# Altium schematic symbol library BBC_Components.SchLib: 89 symbols
Pins are listed as number, name and electrical type; pins without a type are passive.

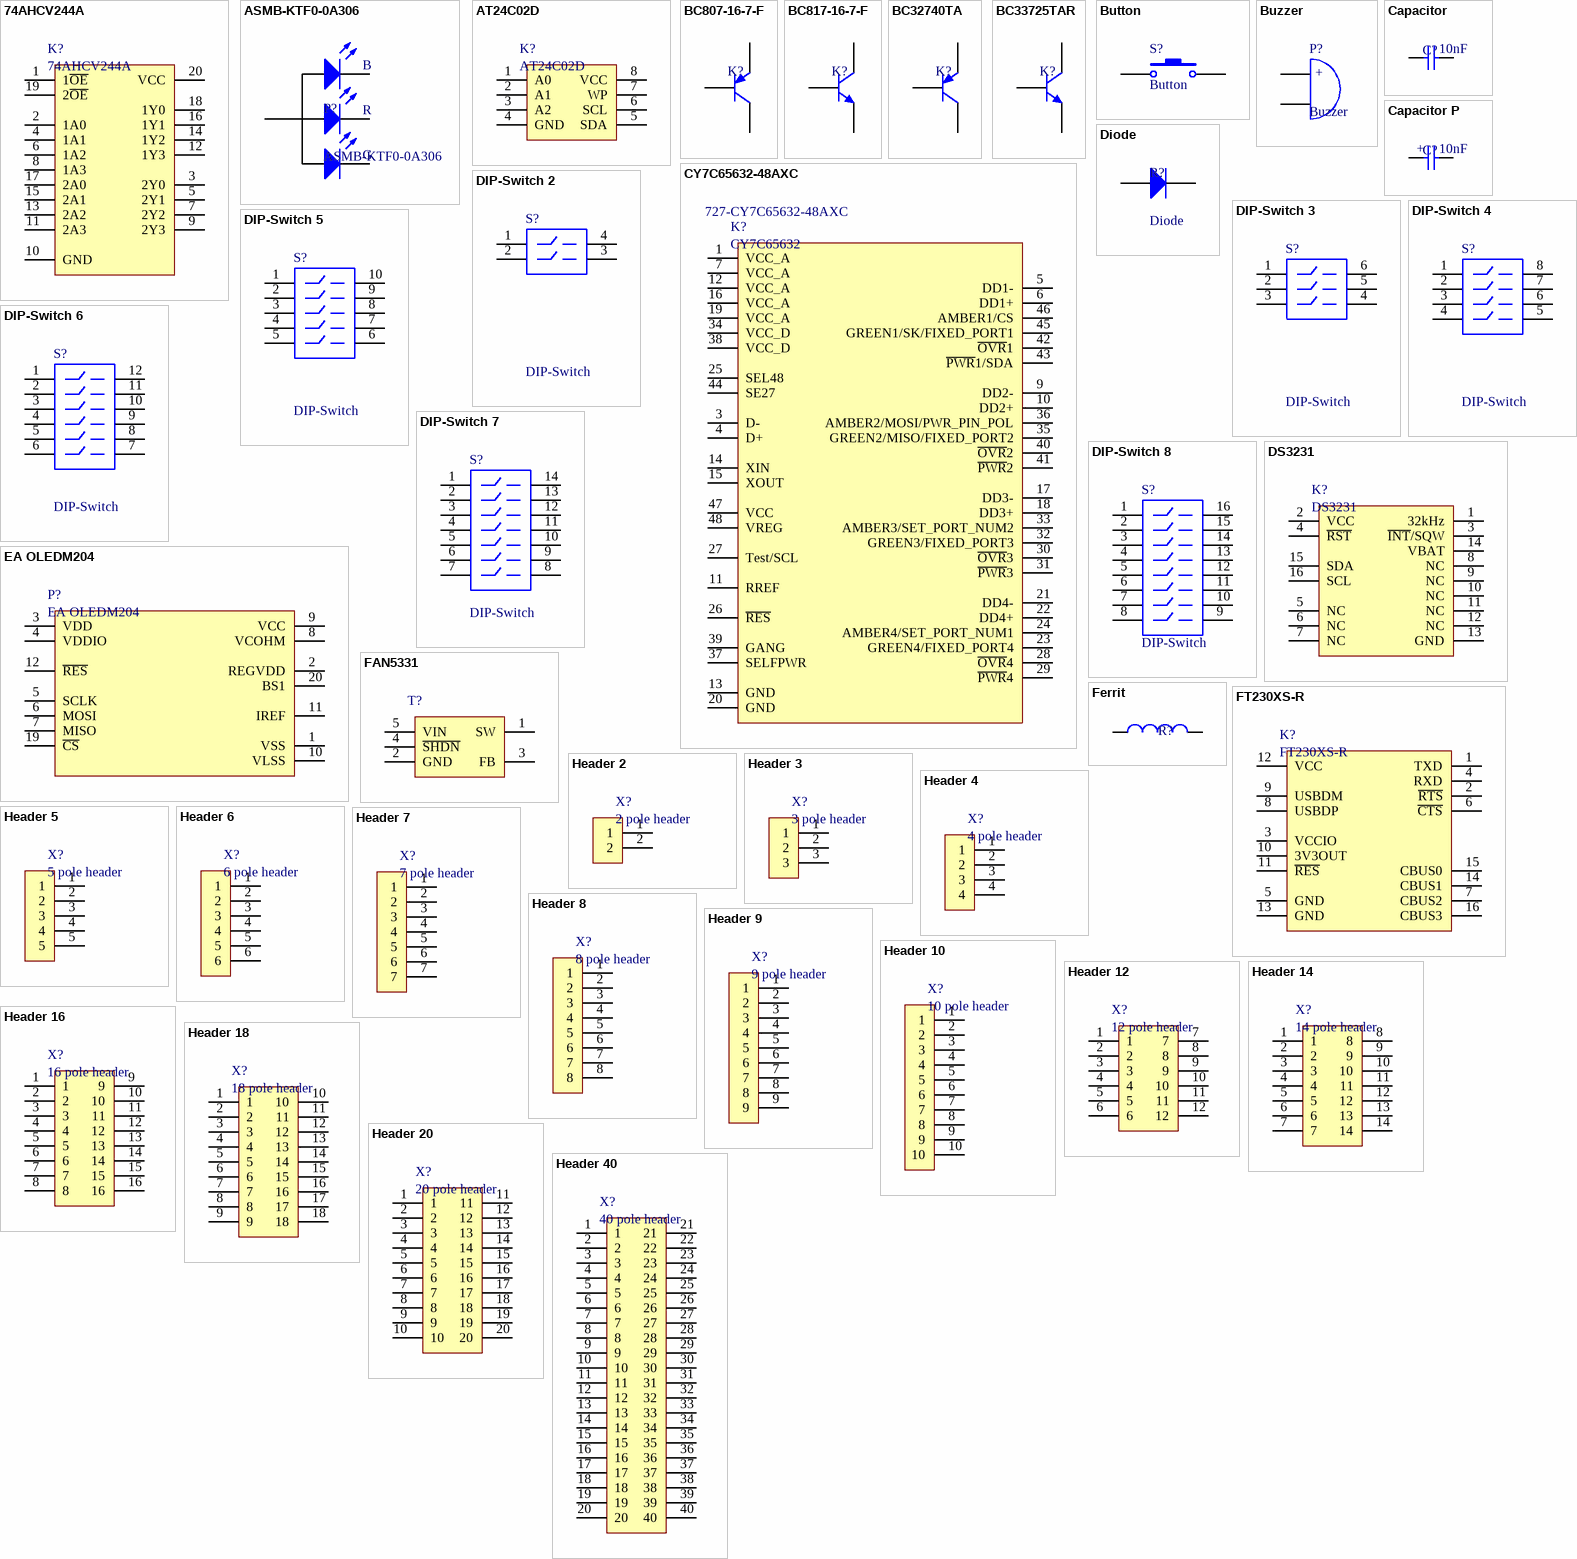
[diagram p0: symbols 74AHCV244A to Header 40]

## 74AHCV244A
designator K?
8 Port line driver; Supplier 1: Mouser; Supplier Part Number 1: 771-74AHCV244APWJ
footprint TSSOP-20 H (TSSOP-20 for hand soldering)
pins: 1 1~{OE}, 2 1A0, 3 2Y0, 4 1A1, 5 2Y1, 6 1A2, 7 2Y2, 8 1A3, 9 2Y3, 10 GND, 11 2A3, 12 1Y3, 13 2A2, 14 1Y2, 15 2A1, 16 1Y1, 17 2A0, 18 1Y0, 19 2~{OE}, 20 VCC

## ASMB-KTF0-0A306
designator P?
RGB LED SMD; LatestRevisionDate: 03.04.2019; Publisher: ICT Berufsbildungscenter AG; Supplier 1: Mouser; Supplier Part Number 1: 630-ASMB-KTF0-0A306
footprint LED ASMB-KTF0-0A306 H (ASMB-KTF0-0A306  SMD RGB LED for hand soldering)
pins: 1 Common Anode, 2 Red Cathode, 3 Green Cathode, 4 Blue Cathode
text: B; R; G

## AT24C02D
designator K?
EEPROM 2kbit I2C; Supplier 1: Mouser; Supplier Part Number 1: 556-AT24C02D-SSHM-B
footprint SOIC-8 N H (Narrow (150mil) SOIC with 8 pins for hand soldering)
pins: 1 A0, 2 A1, 3 A2, 4 GND, 5 SDA, 6 SCL, 7 WP, 8 VCC

## BC807-16-7-F
designator K?  (value not drawn)
Transistor PNP in SOT23-3 package; Supplier 1: Mouser; Supplier Part Number 1: 621-BC807-16-7-F
footprint SOT23-3
pins: 1 B, 2 E, 3 C

## BC817-16-7-F
designator K?  (value not drawn)
Transistor NPN in SOT23-3 package; Supplier 1: Mouser; Supplier Part Number 1: 621-BC817-16-7-F
footprint SOT23-3
pins: 1 B, 2 E, 3 C

## BC32740TA
designator K?  (value not drawn)
Transistor PNP in TO-92 package; Supplier 1: Mouser; Supplier Part Number 1: 512-BC32740TA
footprint TO-92
pins: 1 C, 2 B, 3 E

## BC33725TAR
designator K?  (value not drawn)
Transistor NPN in TO-92 package; Supplier 1: Mouser; Supplier Part Number 1: 512-BC33725TAR
footprint TO-92
pins: 1 C, 2 B, 3 E

## Button
designator S?
Published: 04.10.2019; LatestRevisionDate: 04.10.2019; Publisher: ICT Berufsbildungscenter AG
pins: 1, 2

## Buzzer
designator P?
Piezo Buzzer; Published: 03.10.2019; LatestRevisionDate: 03.10.2019; Publisher: ICT Berufsbildungscenter AG
footprint Buzzer THT 6.5mm (piezo buzzer / tht mount / 3.5mm pitch)
pins: 1 A, 2 B
text: +

## Capacitor
designator C?  value 10nF  (hidden comment: Capacitor)
Non polarized capacitor; LatestRevisionDate: 01.04.2019; Publisher: ICT Berufsbildungscenter AG
footprint CAP CER 0402 R (0402 ceramic capacitor for reflow soldering)
footprint CAP CER 0603 H (0603 ceramic capacitor for hand soldering)
footprint CAP CER 0603 R (0603 ceramic capacitor for reflow soldering)
footprint CAP CER 0805 H (0805 resistor for hand soldering)
footprint CAP CER 0805 R (0805 ceramic capacitor for reflow soldering)
footprint CAP CER 1206 H (1206 ceramic capacitor for hand soldering)
footprint CAP CER 1206 R (1206 ceramic capacitor for reflow soldering)
footprint CAP CER 1210 H (1210 ceramic capacitor for hand soldering)
footprint CAP CER 1210 R (1210 ceramic capacitor for reflow soldering)
footprint CAP FILM 5mm (film capacitor with a 5mm pitch)
footprint CAP FILM 7.5mm (film capacitor with a 7.5mm pitch)
footprint CAP FILM 10mm (film capacitor with a 10mm pitch)
footprint CAP FILM 15mm (film capacitor with a 15mm pitch)
footprint CAP FILM 22.5mm (film capacitor with a 22.5mm pitch)
footprint CAP CER 2.5mm (ceramic capacitor for tht mount with a 2.5mm pitch)
footprint CAP CER 3.75mm (ceramic capacitor for tht mount with a 3.75mm pitch)
footprint CAP CER 5mm (ceramic capacitor for tht mount with a 5mm pitch)
pins: 1, 2

## Capacitor P
designator C?, comment value 10nF  (hidden comment: Capacitor)
Polarized Capacitor; LatestRevisionDate: 02.04.2019; Publisher: ICT Berufsbildungscenter AG
footprint CAP TAN A H (tantalum chip coapcitor casetype A for hand soldering)
footprint CAP TAN A R (tantalum chip coapcitor casetype A for reflow soldering)
footprint CAP TAN B H (tantalum chip coapcitor casetype B for hand soldering)
footprint CAP TAN B R (tantalum chip coapcitor casetype B for reflow soldering)
footprint CAP TAN C H (tantalum chip coapcitor casetype C for hand soldering)
footprint CAP TAN C R (tantalum chip coapcitor casetype C for reflow soldering)
footprint CAP TAN D H (tantalum chip coapcitor casetype D for hand soldering)
footprint CAP TAN D R (tantalum chip coapcitor casetype D for reflow soldering)
footprint CAP TAN R H (tantalum chip coapcitor casetype R for hand soldering)
footprint CAP TAN R R (tantalum chip coapcitor casetype R for reflow soldering)
footprint CAP ELKO 5x7x2 L (aluminium electrolytic capacitor lying on the pcb / d=5, h=7, pitch = 2)
footprint CAP ELKO 5x7x2 S (aluminium electrolytic capacitor standing upright on the pcb / d=5, h=7, pitch = 2)
footprint CAP ELKO 5x11x2 L (aluminium electrolytic capacitor lying on the pcb / d=5, h=11, pitch = 2)
footprint CAP ELKO 5x11x2 S (aluminium electrolytic capacitor standing upright on the pcb / d=5, h=11, pitch = 2)
footprint CAP ELKO 6.3x7x2.5 L (aluminium electrolytic capacitor lying on the pcb / d=6.3, h=7, pitch = 2.5)
footprint CAP ELKO 6.3x7x2.5 S (aluminium electrolytic capacitor standing upright on the pcb / d=6.3, h=7, pitch = 2.5)
footprint CAP ELKO 6.3x11x2 L (aluminium electrolytic capacitor lying on the pcb / d=6.3, h=11, pitch = 2)
footprint CAP ELKO 6.3x11x2 S (aluminium electrolytic capacitor standing upright on the pcb / d=6.3, h=11, pitch = 2)
footprint CAP ELKO 6.3x11x2.5 L (aluminium electrolytic capacitor lying on the pcb / d=6.3, h=11, pitch = 2.5)
footprint CAP ELKO 6.3x11x2.5 S (aluminium electrolytic capacitor standing upright on the pcb / d=6.3, h=11, pitch = 2.5)
footprint CAP ELKO 6.3x12.5x2.5 L (aluminium electrolytic capacitor lying on the pcb / d=6.3, h=12.5, pitch = 2.5)
footprint CAP ELKO 6.3x12.5x2.5 S (aluminium electrolytic capacitor standing upright on the pcb / d=6.3, h=12.5, pitch = 2.5)
footprint CAP ELKO 8x11.5x3.5 L (aluminium electrolytic capacitor lying on the pcb / d=8, h=11.5, pitch = 3.5)
footprint CAP ELKO 8x11.5x3.5 S (aluminium electrolytic capacitor standing upright on the pcb / d=8, h=11.5, pitch = 3.5)
footprint CAP ELKO 10x12.5x5 L (aluminium electrolytic capacitor lying on the pcb / d=10, h=12.5, pitch = 5)
footprint CAP ELKO 10x12.5x5 S (aluminium electrolytic capacitor standing upright on the pcb / d=10, h=12.5, pitch = 5)
footprint CAP ELKO 10x16x5 L (aluminium electrolytic capacitor lying on the pcb / d=10, h=16, pitch = 5)
footprint CAP ELKO 10x16x5 S (aluminium electrolytic capacitor standing upright on the pcb / d=10, h=16, pitch = 5)
footprint CAP ELKO 10x20x5 S (aluminium electrolytic capacitor standing upright on the pcb / d=10, h=20, pitch = 5)
footprint CAP ELKO 10x25x5 S (aluminium electrolytic capacitor standing upright on the pcb / d=10, h=25, pitch = 5)
footprint CAP ELKO 12.5x20x5 S (aluminium electrolytic capacitor standing upright on the pcb / d=12.5, h=20, pitch = 5)
footprint CAP ELKO 12.5x25x5 S (aluminium electrolytic capacitor standing upright on the pcb / d=12.5, h=25, pitch = 5)
footprint CAP ELKO 12.5x30x5 S (aluminium electrolytic capacitor standing upright on the pcb / d=12.5, h=30, pitch = 5)
footprint CAP ELKO 16x20x7.5 S (aluminium electrolytic capacitor standing upright on the pcb / d=16, h=20, pitch = 7.5)
footprint CAP ELKO 16x25x7.5 S (aluminium electrolytic capacitor standing upright on the pcb / d=16, h=25, pitch = 7.5)
footprint CAP ELKO 16x31.5x7.5 S (aluminium electrolytic capacitor standing upright on the pcb / d=16, h=31.5, pitch = 7.5)
footprint CAP ELKO 16x40x7.5 S (aluminium electrolytic capacitor standing upright on the pcb / d=16, h=40, pitch = 7.5)
footprint CAP ELKO 18x20x7.5 S (aluminium electrolytic capacitor standing upright on the pcb / d=18, h=20, pitch = 7.5)
footprint CAP ELKO 18x25x7.5 S (aluminium electrolytic capacitor standing upright on the pcb / d=18, h=25, pitch = 7.5)
footprint CAP ELKO 18x30x7.5 S (aluminium electrolytic capacitor standing upright on the pcb / d=18, h=30, pitch = 7.5)
footprint CAP ELKO 18x40x7.5 S (aluminium electrolytic capacitor standing upright on the pcb / d=18, h=40, pitch = 7.5)
footprint CAP ELKO B H (aluminium electrolytic capacitor surface mount case B)
footprint CAP ELKO C H (aluminium electrolytic capacitor surface mount case C)
footprint CAP ELKO D H (aluminium electrolytic capacitor surface mount case D)
footprint CAP ELKO D8 H (aluminium electrolytic capacitor surface mount case D8)
footprint CAP ELKO E H (aluminium electrolytic capacitor surface mount case E)
footprint CAP ELKO F H (aluminium electrolytic capacitor surface mount case F)
footprint CAP ELKO G H (aluminium electrolytic capacitor surface mount case G)
footprint CAP ELKO H13 H (aluminium electrolytic capacitor surface mount case H13)
footprint CAP ELKO J16 H (aluminium electrolytic capacitor surface mount case J16)
footprint CAP ELKO K16 H (aluminium electrolytic capacitor surface mount case K16)
footprint CAP TAN 2.5mm
pins: A Anode, C Cathode
text: +

## CY7C65632-48AXC
designator K?, comment CY7C65632  Supplier Part Number 1: 727-CY7C65632-48AXC
4 port usb hub; Supplier 1: Mouser
footprint TQFP 48
pins: 1 VCC_A, 3 D-, 4 D+, 5 DD1-, 6 DD1+, 7 VCC_A, 9 DD2-, 10 DD2+, 11 RREF, 12 VCC_A, 13 GND, 14 XIN, 15 XOUT, 16 VCC_A, 17 DD3-, 18 DD3+, 19 VCC_A, 20 GND, 21 DD4-, 22 DD4+, 23 GREEN4/FIXED_PORT4, 24 AMBER4/SET_PORT_NUM1, 25 SEL48, 26 ~{RES}, 27 Test/SCL, 28 ~{OVR}4, 29 ~{PWR}4, 30 ~{OVR}3, 31 ~{PWR}3, 32 GREEN3/FIXED_PORT3, 33 AMBER3/SET_PORT_NUM2, 34 VCC_D, 35 GREEN2/MISO/FIXED_PORT2, 36 AMBER2/MOSI/PWR_PIN_POL, 37 SELFPWR, 38 VCC_D, 39 GANG, 40 ~{OVR}2, 41 ~{PWR}2, 42 ~{OVR}1, 43 ~{PWR}1/SDA, 44 SE27, 45 GREEN1/SK/FIXED_PORT1, 46 AMBER1/CS, 47 VCC, 48 VREG

## Diode
designator R?
LatestRevisionDate: 03.04.2019; Publisher: ICT Berufsbildungscenter AG
footprint Diode 5mm (Diode for tht mounting with a 5mm pitch)
footprint Diode 7.5mm (Diode for tht mounting with a 7.5mm pitch)
footprint Diode 10mm (Diode for tht mounting with a 10mm pitch)
footprint Diode 12.5mm (Diode for tht mounting with a 12.5mm pitch)
footprint Diode SOD123 H (Diode in SOD123 Case for hand soldering)
footprint Diode SOD123 R (Diode in SOD123 Case for reflow soldering)
footprint Diode DO-214AA SMB H (Diode in DO-214AA (same as SMB) package for hand soldering)
footprint Diode DO-214AB SMC H (Diode in DO-214AB (same as SMC) package for hand soldering)
footprint Diode DO-214AC SMA H (Diode in DO-214AC (same as SMA) package for hand soldering)
footprint Diode DO-214AA SMB R (Diode in DO-214AA (same as SMB) package for reflow soldering)
footprint Diode DO-214AB SMC R (Diode in DO-214AB (same as SMC) package for reflow soldering)
footprint Diode DO-214AC SMA R (Diode in DO-214AC (same as SMA) package for reflow soldering)
pins: A Anode, C Cathode

## DIP-Switch 2
designator S?, comment DIP-Switch
Dip Switch with 2 switches; Published: 03.10.2019; LatestRevisionDate: 03.10.2019; Publisher: ICT Berufsbildungscenter AG; ComponentLink1Description: Manufacturer Link; ComponentLink1URL: http://www.oupiin.com/prodindx.html#Headers
footprint DIP Switch SMD 2 H (Dipswitch for surface mount / hand soldering)
pins: 1, 2, 3, 4

## DIP-Switch 3
designator S?, comment DIP-Switch
Dip Switch with 3 switches; Published: 03.10.2019; LatestRevisionDate: 03.10.2019; Publisher: ICT Berufsbildungscenter AG; ComponentLink1Description: Manufacturer Link; ComponentLink1URL: http://www.oupiin.com/prodindx.html#Headers
footprint DIP Switch SMD 3 H (Dipswitch for surface mount / hand soldering)
pins: 1, 2, 3, 4, 5, 6

## DIP-Switch 4
designator S?, comment DIP-Switch
Dip Switch with 4 switches; Published: 03.10.2019; LatestRevisionDate: 03.10.2019; Publisher: ICT Berufsbildungscenter AG; ComponentLink1Description: Manufacturer Link; ComponentLink1URL: http://www.oupiin.com/prodindx.html#Headers
footprint DIP Switch SMD 4 H (Dipswitch for surface mount / hand soldering)
pins: 1, 2, 3, 4, 5, 6, 7, 8

## DIP-Switch 5
designator S?, comment DIP-Switch
Dip Switch with 5 switches; Published: 03.10.2019; LatestRevisionDate: 03.10.2019; Publisher: ICT Berufsbildungscenter AG; ComponentLink1Description: Manufacturer Link; ComponentLink1URL: http://www.oupiin.com/prodindx.html#Headers
footprint DIP Switch SMD 5 H (Dipswitch for surface mount / hand soldering)
pins: 1, 2, 3, 4, 5, 6, 7, 8, 9, 10

## DIP-Switch 6
designator S?, comment DIP-Switch
Dip Switch with 6 switches; Published: 03.10.2019; LatestRevisionDate: 03.10.2019; Publisher: ICT Berufsbildungscenter AG; ComponentLink1Description: Manufacturer Link; ComponentLink1URL: http://www.oupiin.com/prodindx.html#Headers
footprint DIP Switch SMD 6 H (Dipswitch for surface mount / hand soldering)
pins: 1, 2, 3, 4, 5, 6, 7, 8, 9, 10, 11, 12

## DIP-Switch 7
designator S?, comment DIP-Switch
Dip Switch with 7 switches; Published: 03.10.2019; LatestRevisionDate: 03.10.2019; Publisher: ICT Berufsbildungscenter AG; ComponentLink1Description: Manufacturer Link; ComponentLink1URL: http://www.oupiin.com/prodindx.html#Headers
footprint DIP Switch SMD 7 H (Dipswitch for surface mount / hand soldering)
pins: 1, 2, 3, 4, 5, 6, 7, 8, 9, 10, 11, 12, 13, 14

## DIP-Switch 8
designator S?, comment DIP-Switch
Dip Switch with 8 switches; Published: 03.10.2019; LatestRevisionDate: 03.10.2019; Publisher: ICT Berufsbildungscenter AG; ComponentLink1Description: Manufacturer Link; ComponentLink1URL: http://www.oupiin.com/prodindx.html#Headers
footprint DIP Switch SMD 8 H (Dipswitch for surface mount / hand soldering)
pins: 1, 2, 3, 4, 5, 6, 7, 8, 9, 10, 11, 12, 13, 14, 15, 16

## DS3231
designator K?
Real Time Clock; Supplier 1: Farnell; Supplier 2: Mouser; Supplier Part Number 1: 2798760; Supplier Part Number 2: 700-DS3231SN#T&R-
footprint SOIC-16 W H (Wide (300mil) SOIC with 16 pins for hand soldering)
pins: 1 32kHz, 2 VCC, 3 ~{INT}/SQW, 4 ~{RST}, 5 NC, 6 NC, 7 NC, 8 NC, 9 NC, 10 NC, 11 NC, 12 NC, 13 GND, 14 VBAT, 15 SDA, 16 SCL

## EA OLEDM204
designator P?
4x20 OLED Textdisplay; Publisher: ICT Berufsbildungscenter AG; LatestRevisionDate: 03.10.2019; Published: 03.10.2019; Supplier 1: Distrelec; Supplier Part Number 1: 30117338
footprint EA OLEDM204
pins: 1 VSS, 2 REGVDD, 3 VDD, 4 VDDIO, 5 SCLK, 6 MOSI, 7 MISO, 8 VCOHM, 9 VCC, 10 VLSS, 11 IREF, 12 ~{RES}, 19 ~{CS}, 20 BS1

## FAN5331
designator T?  (value not drawn)
Boost Converter with configurable output voltage; Supplier 1: Mouser; Supplier 2: Farnell; Supplier Part Number 1: 512-FAN5331SX; Supplier Part Number 2: 1858084
footprint SOT23-5
pins: 1 SW, 2 GND, 3 FB, 4 ~{SHDN}, 5 VIN

## Ferrit
designator R?  (value not drawn)
LatestRevisionDate: 26.09.2019; Publisher: ICT Berufsbildungscenter AG; Published: 03.10.2019
pins: 1, 2

## FT230XS-R
designator K?
USB - UART converter; Supplier 1: Mouser; Supplier Part Number 1: 895-FT230XS-R
footprint TSSOP-16 H (TSSOP-16 for hand soldering)
pins: 1 TXD, 2 ~{RTS}, 3 VCCIO, 4 RXD, 5 GND, 6 ~{CTS}, 7 CBUS2, 8 USBDP, 9 USBDM, 10 3V3OUT, 11 ~{RES}, 12 VCC, 13 GND, 14 CBUS1, 15 CBUS0, 16 CBUS3

## Header 2
designator X?, comment 2 pole header
board to board header; LatestRevisionDate: 02.05.2019; Publisher: ICT Berufsbildungscenter AG
footprint Header THT female 1x2 (header for tht mounting / pitch = 2.54mm)
footprint Header THT female 1x2 RA (right angled header for tht mounting / pitch = 2.54mm)
footprint Header THT male 1x2 (header for tht mounting / pitch = 2.54mm)
footprint Header THT male 1x2 RA (right angle header for tht mounting / pitch = 2.54mm)
footprint Header SMD Male 1x2 R (male header for smd mounting / pitch = 2.54mm / reflow soldering)
footprint Header SMD Male 2x1 R (male header for smd mounting / pitch = 2.54mm / reflow soldering)
footprint Header SMD Male 1x2 H (male header for smd mounting / pitch = 2.54mm / hand soldering)
footprint Header SMD Male 2x1 H (male header for smd mounting / pitch = 2.54mm / hand soldering)
footprint Header SMD Male 1x2 RA H (right angled male header for smd mounting / pitch = 2.54mm / hand soldering)
pins: 1, 2

## Header 3
designator X?, comment 3 pole header
board to board header; LatestRevisionDate: 02.05.2019; Publisher: ICT Berufsbildungscenter AG
footprint Header THT female 1x3 (header for tht mounting / pitch = 2.54mm)
footprint Header THT female 1x3 RA (right angled header for tht mounting / pitch = 2.54mm)
footprint Header THT male 1x3 (header for tht mounting / pitch = 2.54mm)
footprint Header THT male 1x3 RA (right angle header for tht mounting / pitch = 2.54mm)
footprint Header SMD Male 1x3 R (male header for smd mounting / pitch = 2.54mm / reflow soldering)
footprint Header SMD Male 1x3 H (male header for smd mounting / pitch = 2.54mm / hand soldering)
footprint Header SMD Male 1x3 RA H (right angled male header for smd mounting / pitch = 2.54mm / hand soldering)
pins: 1, 2, 3

## Header 4
designator X?, comment 4 pole header
board to board header; LatestRevisionDate: 02.05.2019; Publisher: ICT Berufsbildungscenter AG
footprint Header THT female 1x4 (header for tht mounting / pitch = 2.54mm)
footprint Header THT female 1x4 RA (right angled header for tht mounting / pitch = 2.54mm)
footprint Header THT female 2x2 (header for tht mounting / pitch = 2.54mm)
footprint Header THT female 2x2 RA (right angled header for tht mounting / pitch = 2.54mm)
footprint Header THT male 1x4 RA (right angle header for tht mounting / pitch = 2.54mm)
footprint Header THT male 2x2 (header for tht mounting / pitch = 2.54mm)
footprint Header THT male 2x2 RA (right angle header for tht mounting / pitch = 2.54mm)
footprint Header THT male 1x4 (header for tht mounting / pitch = 2.54mm)
footprint Header SMD Male 1x4 R (male header for smd mounting / pitch = 2.54mm / reflow soldering)
footprint Header SMD Male 2x2 R (male header for smd mounting / pitch = 2.54mm / reflow soldering)
footprint Header SMD Male 1x4 H (male header for smd mounting / pitch = 2.54mm / hand soldering)
footprint Header SMD Male 2x2 H (male header for smd mounting / pitch = 2.54mm / hand soldering)
footprint Header SMD Male 1x4 RA H (right angled male header for smd mounting / pitch = 2.54mm / hand soldering)
pins: 1, 2, 3, 4

## Header 5
designator X?, comment 5 pole header
board to board header; LatestRevisionDate: 02.05.2019; Publisher: ICT Berufsbildungscenter AG
footprint Header THT female 1x5 (header for tht mounting / pitch = 2.54mm)
footprint Header THT female 1x5 RA (right angled header for tht mounting / pitch = 2.54mm)
footprint Header THT male 1x5 (header for tht mounting / pitch = 2.54mm)
footprint Header THT male 1x5 RA (right angle header for tht mounting / pitch = 2.54mm)
footprint Header SMD Male 1x5 R (male header for smd mounting / pitch = 2.54mm / reflow soldering)
footprint Header SMD Male 1x5 H (male header for smd mounting / pitch = 2.54mm / hand soldering)
footprint Header SMD Male 1x5 RA H (right angled male header for smd mounting / pitch = 2.54mm / hand soldering)
pins: 1, 2, 3, 4, 5

## Header 6
designator X?, comment 6 pole header
board to board header; LatestRevisionDate: 02.05.2019; Publisher: ICT Berufsbildungscenter AG
footprint Header THT female 1x6 (header for tht mounting / pitch = 2.54mm)
footprint Header THT female 1x6 RA (right angled header for tht mounting / pitch = 2.54mm)
footprint Header THT female 2x3 (header for tht mounting / pitch = 2.54mm)
footprint Header THT female 2x3 RA (right angled header for tht mounting / pitch = 2.54mm)
footprint Header THT male 1x6 (header for tht mounting / pitch = 2.54mm)
footprint Header THT male 1x6 RA (right angle header for tht mounting / pitch = 2.54mm)
footprint Header THT male 2x3 (header for tht mounting / pitch = 2.54mm)
footprint Header THT male 2x3 RA (right angle header for tht mounting / pitch = 2.54mm)
footprint Header SMD Male 1x6 H (male header for smd mounting / pitch = 2.54mm / hand soldering)
footprint Header SMD Male 1x6 R (male header for smd mounting / pitch = 2.54mm / reflow soldering)
footprint Header SMD Male 2x3 H (male header for smd mounting / pitch = 2.54mm / hand soldering)
footprint Header SMD Male 2x3 R (male header for smd mounting / pitch = 2.54mm / reflow soldering)
footprint Header SMD Male 1x6 RA H (right angled male header for smd mounting / pitch = 2.54mm / hand soldering)
pins: 1, 2, 3, 4, 5, 6

## Header 7
designator X?, comment 7 pole header
board to board header; LatestRevisionDate: 02.05.2019; Publisher: ICT Berufsbildungscenter AG
footprint Header THT female 1x7 (header for tht mounting / pitch = 2.54mm)
footprint Header THT female 1x7 RA (right angled header for tht mounting / pitch = 2.54mm)
footprint Header THT male 1x7 (header for tht mounting / pitch = 2.54mm)
footprint Header THT male 1x7 RA (right angle header for tht mounting / pitch = 2.54mm)
footprint Header SMD Male 1x7 H (male header for smd mounting / pitch = 2.54mm / hand soldering)
footprint Header SMD Male 1x7 R (male header for smd mounting / pitch = 2.54mm / reflow soldering)
footprint Header SMD Male 1x7 RA H (right angled male header for smd mounting / pitch = 2.54mm / hand soldering)
pins: 1, 2, 3, 4, 5, 6, 7

## Header 8
designator X?, comment 8 pole header
board to board header; LatestRevisionDate: 02.05.2019; Publisher: ICT Berufsbildungscenter AG
footprint Header THT female 1x8 (header for tht mounting / pitch = 2.54mm)
footprint Header THT female 1x8 RA (right angled header for tht mounting / pitch = 2.54mm)
footprint Header THT female 2x4 (header for tht mounting / pitch = 2.54mm)
footprint Header THT female 2x4 RA (right angled header for tht mounting / pitch = 2.54mm)
footprint Header THT male 1x8 (header for tht mounting / pitch = 2.54mm)
footprint Header THT male 1x8 RA (right angle header for tht mounting / pitch = 2.54mm)
footprint Header THT male 2x4 (header for tht mounting / pitch = 2.54mm)
footprint Header THT male 2x4 RA (right angle header for tht mounting / pitch = 2.54mm)
footprint Header SMD Male 1x8 H (male header for smd mounting / pitch = 2.54mm / hand soldering)
footprint Header SMD Male 1x8 R (male header for smd mounting / pitch = 2.54mm / reflow soldering)
footprint Header SMD Male 2x4 H (male header for smd mounting / pitch = 2.54mm / hand soldering)
footprint Header SMD Male 2x4 R (male header for smd mounting / pitch = 2.54mm / reflow soldering)
footprint Header SMD Male 1x8 RA H (right angled male header for smd mounting / pitch = 2.54mm / hand soldering)
pins: 1, 2, 3, 4, 5, 6, 7, 8

## Header 9
designator X?, comment 9 pole header
board to board header; LatestRevisionDate: 02.05.2019; Publisher: ICT Berufsbildungscenter AG
footprint Header THT female 1x9 (header for tht mounting / pitch = 2.54mm)
footprint Header THT female 1x9 RA (right angled header for tht mounting / pitch = 2.54mm)
footprint Header THT male 1x9 (header for tht mounting / pitch = 2.54mm)
footprint Header THT male 1x9 RA (right angle header for tht mounting / pitch = 2.54mm)
footprint Header SMD Male 1x9 H (male header for smd mounting / pitch = 2.54mm / hand soldering)
footprint Header SMD Male 1x9 R (male header for smd mounting / pitch = 2.54mm / reflow soldering)
footprint Header SMD Male 1x9 RA H (right angled male header for smd mounting / pitch = 2.54mm / hand soldering)
pins: 1, 2, 3, 4, 5, 6, 7, 8, 9

## Header 10
designator X?, comment 10 pole header
board to board header; LatestRevisionDate: 02.05.2019; Publisher: ICT Berufsbildungscenter AG
footprint Header THT female 2x5 (header for tht mounting / pitch = 2.54mm)
footprint Header THT female 2x5 RA (right angled header for tht mounting / pitch = 2.54mm)
footprint Header THT male 1x10 (header for tht mounting / pitch = 2.54mm)
footprint Header THT male 1x10 RA (right angle header for tht mounting / pitch = 2.54mm)
footprint Header THT male 2x5 (header for tht mounting / pitch = 2.54mm)
footprint Header THT male 2x5 RA (right angle header for tht mounting / pitch = 2.54mm)
footprint Header THT female 1x10 (header for tht mounting / pitch = 2.54mm)
footprint Header THT female 1x10 RA (right angled header for tht mounting / pitch = 2.54mm)
footprint Header SMD Male 1x10 H (male header for smd mounting / pitch = 2.54mm / hand soldering)
footprint Header SMD Male 1x10 R (male header for smd mounting / pitch = 2.54mm / reflow soldering)
footprint Header SMD Male 2x5 H (male header for smd mounting / pitch = 2.54mm / hand soldering / hand soldering)
footprint Header SMD Male 2x5 R (male header for smd mounting / pitch = 2.54mm / hand soldering / reflow soldering)
footprint Header SMD Male 1x10 RA H (right angled male header for smd mounting / pitch = 2.54mm / hand soldering)
pins: 1, 2, 3, 4, 5, 6, 7, 8, 9, 10

## Header 12
designator X?, comment 12 pole header
board to board header; LatestRevisionDate: 02.05.2019; Publisher: ICT Berufsbildungscenter AG
footprint Header THT female 2x6 (header for tht mounting / pitch = 2.54mm)
footprint Header THT female 2x6 RA (right angled header for tht mounting / pitch = 2.54mm)
footprint Header THT male 2x6 (header for tht mounting / pitch = 2.54mm)
footprint Header THT male 2x6 RA (right angle header for tht mounting / pitch = 2.54mm)
footprint Header SMD Male 2x6 H (male header for smd mounting / pitch = 2.54mm / hand soldering)
footprint Header SMD Male 2x6 R (male header for smd mounting / pitch = 2.54mm / reflow soldering)
pins: 1, 2, 3, 4, 5, 6, 7, 8, 9, 10, 11, 12

## Header 14
designator X?, comment 14 pole header
board to board header; LatestRevisionDate: 02.05.2019; Publisher: ICT Berufsbildungscenter AG
footprint Header THT female 2x7 (header for tht mounting / pitch = 2.54mm)
footprint Header THT female 2x7 RA (right angled header for tht mounting / pitch = 2.54mm)
footprint Header THT male 2x7 RA (right angle header for tht mounting / pitch = 2.54mm)
footprint Header THT male 2x7 (header for tht mounting / pitch = 2.54mm)
footprint Header SMD Male 2x7 H (male header for smd mounting / pitch = 2.54mm / hand soldering)
footprint Header SMD Male 2x7 R (male header for smd mounting / pitch = 2.54mm / reflow soldering)
pins: 1, 2, 3, 4, 5, 6, 7, 8, 9, 10, 11, 12, 13, 14

## Header 16
designator X?, comment 16 pole header
board to board header; LatestRevisionDate: 02.05.2019; Publisher: ICT Berufsbildungscenter AG
footprint Header THT female 2x8 (header for tht mounting / pitch = 2.54mm)
footprint Header THT female 2x8 RA (right angled header for tht mounting / pitch = 2.54mm)
footprint Header THT male 2x8 (header for tht mounting / pitch = 2.54mm)
footprint Header THT male 2x8 RA (right angle header for tht mounting / pitch = 2.54mm)
footprint Header SMD Male 2x8 H (male header for smd mounting / pitch = 2.54mm / hand soldering)
footprint Header SMD Male 2x8 R (male header for smd mounting / pitch = 2.54mm / reflow soldering)
pins: 1, 2, 3, 4, 5, 6, 7, 8, 9, 10, 11, 12, 13, 14, 15, 16

## Header 18
designator X?, comment 18 pole header
board to board header; LatestRevisionDate: 02.05.2019; Publisher: ICT Berufsbildungscenter AG
footprint Header THT female 2x9 (header for tht mounting / pitch = 2.54mm)
footprint Header THT female 2x9 RA (right angled header for tht mounting / pitch = 2.54mm)
footprint Header THT male 2x9 (header for tht mounting / pitch = 2.54mm)
footprint Header THT male 2x9 RA (right angle header for tht mounting / pitch = 2.54mm)
footprint Header SMD Male 2x9 H (male header for smd mounting / pitch = 2.54mm / hand soldering)
footprint Header SMD Male 2x9 R (male header for smd mounting / pitch = 2.54mm / reflow soldering)
pins: 1, 2, 3, 4, 5, 6, 7, 8, 9, 10, 11, 12, 13, 14, 15, 16, 17, 18

## Header 20
designator X?, comment 20 pole header
board to board header; LatestRevisionDate: 02.05.2019; Publisher: ICT Berufsbildungscenter AG
footprint Header THT female 2x10 (header for tht mounting / pitch = 2.54mm)
footprint Header THT female 2x10 RA (right angled header for tht mounting / pitch = 2.54mm)
footprint Header THT male 2x10 (header for tht mounting / pitch = 2.54mm)
footprint Header THT male 2x10 RA (right angle header for tht mounting / pitch = 2.54mm)
footprint Header SMD Male 2x10 H (male header for smd mounting / pitch = 2.54mm / hand soldering)
footprint Header SMD Male 2x10 R (male header for smd mounting / pitch = 2.54mm / reflow soldering)
pins: 1, 2, 3, 4, 5, 6, 7, 8, 9, 10, 11, 12, 13, 14, 15, 16, 17, 18, 19, 20

## Header 40
designator X?, comment 40 pole header
board to board header; LatestRevisionDate: 02.05.2019; Publisher: ICT Berufsbildungscenter AG
footprint Header THT female 2x20 (header for tht mounting / pitch = 2.54mm)
footprint Header THT female 2x20 RA (right angled header for tht mounting / pitch = 2.54mm)
footprint Header THT male 2x20 (header for tht mounting / pitch = 2.54mm)
footprint Header THT male 2x20 RA (right angle header for tht mounting / pitch = 2.54mm)
footprint Header SMD Male 2x20 H (male header for smd mounting / pitch = 2.54mm / hand soldering)
footprint Header SMD Male 2x20 R (male header for smd mounting / pitch = 2.54mm / reflow soldering)
pins: 1, 2, 3, 4, 5, 6, 7, 8, 9, 10, 11, 12, 13, 14, 15, 16, 17, 18, 19, 20, 21, 22, 23, 24, 25, 26, 27, 28, 29, 30, 31, 32, 33, 34, 35, 36, 37, 38, 39, 40

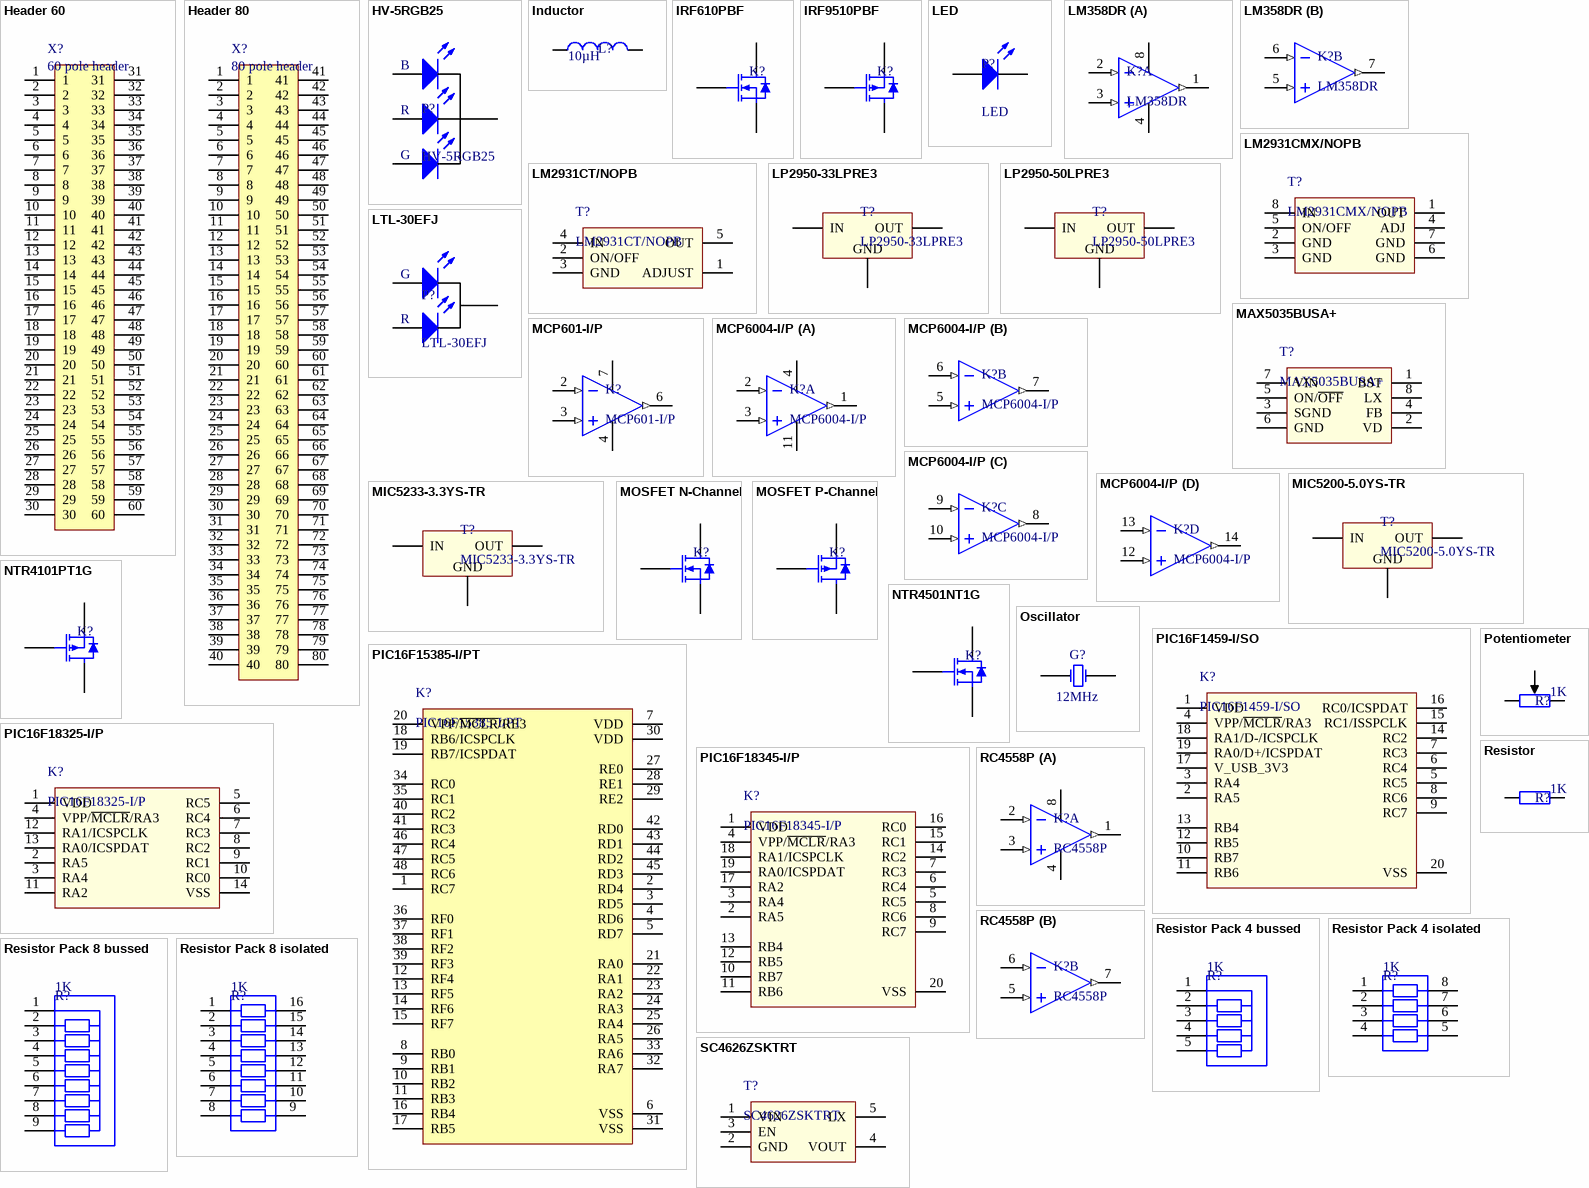
[diagram p1: symbols Header 60 to SC4626ZSKTRT]

## Header 60
designator X?, comment 60 pole header
board to board header; LatestRevisionDate: 02.05.2019; Publisher: ICT Berufsbildungscenter AG
footprint Header SMD Male 2x30 H (male header for smd mounting / pitch = 2.54mm / hand soldering)
footprint Header SMD Male 2x30 R (male header for smd mounting / pitch = 2.54mm / reflow soldering)
footprint Header THT female 2x30 (header for tht mounting / pitch = 2.54mm)
footprint Header THT female 2x30 RA (right angled header for tht mounting / pitch = 2.54mm)
footprint Header THT male 2x30 (header for tht mounting / pitch = 2.54mm)
footprint Header THT male 2x30 RA (right angle header for tht mounting / pitch = 2.54mm)
pins: 1, 2, 3, 4, 5, 6, 7, 8, 9, 10, 11, 12, 13, 14, 15, 16, 17, 18, 19, 20, 21, 22, 23, 24, 25, 26, 27, 28, 29, 30, 31, 32, 33, 34, 35, 36, 37, 38, 39, 40, 41, 42, 43, 44, 45, 46, 47, 48, 49, 50, 51, 52, 53, 54, 55, 56, 57, 58, 59, 60

## Header 80
designator X?, comment 80 pole header
board to board header; LatestRevisionDate: 02.05.2019; Publisher: ICT Berufsbildungscenter AG
footprint Header SMD Male 2x40 H (male header for smd mounting / pitch = 2.54mm / hand soldering)
footprint Header SMD Male 2x40 R (male header for smd mounting / pitch = 2.54mm / reflow soldering)
footprint Header THT female 2x40 (header for tht mounting / pitch = 2.54mm)
footprint Header THT female 2x40 RA (right angled header for tht mounting / pitch = 2.54mm)
footprint Header THT male 2x40 (header for tht mounting / pitch = 2.54mm)
footprint Header THT male 2x40 RA (right angle header for tht mounting / pitch = 2.54mm)
pins: 1, 2, 3, 4, 5, 6, 7, 8, 9, 10, 11, 12, 13, 14, 15, 16, 17, 18, 19, 20, 21, 22, 23, 24, 25, 26, 27, 28, 29, 30, 31, 32, 33, 34, 35, 36, 37, 38, 39, 40, 41, 42, 43, 44, 45, 46, 47, 48, 49, 50, 51, 52, 53, 54, 55, 56, 57, 58, 59, 60, 61, 62, 63, 64, 65, 66, 67, 68, 69, 70, 71, 72, 73, 74, 75, 76, 77, 78, 79, 80

## HV-5RGB25
designator P?
RGB LED THT; LatestRevisionDate: 03.04.2019; Publisher: ICT Berufsbildungscenter AG; Supplier 1: Mouser; Supplier Part Number 1: 743-HV-5RGB25
footprint LED 5mm RGB (LED for tht mounting with 5mm diameter)
pins: 1 Blue Anode, 2 Red Anode, 3 Common Cathode, 4 Green Anode
text: B; R; G

## Inductor
designator L?  value 10µH  (hidden comment: Inductor)
Type: Typ; LatestRevisionDate: 05.04.2019; Publisher: ICT Berufsbildungscenter AG
pins: 1, 2

## IRF610PBF
designator K?  (value not drawn)
MOSFET N-Channel in TO-220 package; Supplier 1: Mouser; Supplier Part Number 1: 844-IRF610PBF
footprint TO-220
pins: 1 G, 2 D, 3 S

## IRF9510PBF
designator K?  (value not drawn)
MOSFET P-Channel  in TO-220 package; Supplier 1: Mouser; Supplier Part Number 1: 844-IRF9510PBF
footprint TO-220
pins: 1 G, 2 D, 3 S

## LED
designator P?
Light emitting diode; LatestRevisionDate: 03.04.2019; Publisher: ICT Berufsbildungscenter AG
footprint LED 3mm blue (LED for tht mounting with 3mm diameter)
footprint LED 3mm green (LED for tht mounting with 3mm diameter)
footprint LED 3mm red (LED for tht mounting with 3mm diameter)
footprint LED 3mm yellow (LED for tht mounting with 3mm diameter)
footprint LED 5mm blue (LED for tht mounting with 5mm diameter)
footprint LED 5mm green (LED for tht mounting with 5mm diameter)
footprint LED 5mm red (LED for tht mounting with 5mm diameter)
footprint LED 5mm yellow (LED for tht mounting with 5mm diameter)
footprint LED 1206 blue H (SMD LED for hand soldering)
footprint LED 1206 blue R (SMD LED for reflow soldering)
footprint LED 1206 green H (SMD LED for hand soldering)
footprint LED 1206 green R (SMD LED for reflow soldering)
footprint LED 1206 red H (SMD LED)
footprint LED 1206 red R (SMD LED for reflow soldering)
footprint LED 1206 yellow H (SMD LED for hand soldering)
footprint LED 1206 yellow R (SMD LED for reflow soldering)
pins: A Anode, C Cathode

## LM358DR
designator K?
Dual OPAMP; Supplier 1: Mouser; Supplier Part Number 1: 863-LM358DR2G
footprint SOIC-8 N H (Narrow (150mil) SOIC with 8 pins for hand soldering)
footprint SOIC-8 N R (Narrow (150mil) SOIC with 8 pins for reflow soldering)
part A pins: 1 OUT1 (out), 2 IN1- (in), 3 IN1+ (in), 4 V- (power), 8 V+ (power)
part B pins: 5 IN2+ (in), 6 IN2- (in), 7 OUT2 (out)

## LM2931CMX/NOPB
designator T?
Linear voltage regulator adjustable output voltage / 100mA SOIC-8; Supplier 1: Mouser; Supplier Part Number 1: 926-LM2931CMX/NOPB
footprint SOIC-8 N H (Narrow (150mil) SOIC with 8 pins for hand soldering)
footprint SOIC-8 N R (Narrow (150mil) SOIC with 8 pins for reflow soldering)
pins: 1 OUT, 2 GND, 3 GND, 4 ADJ, 5 ON/OFF, 6 GND, 7 GND, 8 IN

## LM2931CT/NOPB
designator T?
Linear voltage regulator adjustable output voltage / 100mA TO-220-5; Supplier 1: Mouser; Supplier Part Number 1: 926-LM2931CT/NOPB
footprint TO-220-5
pins: 1 ADJUST, 2 ON/OFF, 3 GND, 4 IN, 5 OUT

## LP2950-33LPRE3
designator T?
Linear voltage regulator 3.3V / 100mA TO-92; Supplier 1: Mouser; Supplier Part Number 1: 595-LP2950-33LPRE3
footprint TO-92
pins: 1 OUT, 2 GND, 3 IN

## LP2950-50LPRE3
designator T?
Linear voltage regulator 5V / 100mA TO-92; Supplier 1: Mouser; Supplier Part Number 1: 595-LP2950-50LPRE3
footprint TO-92
pins: 1 OUT, 2 GND, 3 IN

## LTL-30EFJ
designator P?
RG LED THT; LatestRevisionDate: 03.04.2019; Publisher: ICT Berufsbildungscenter AG; Supplier 1: Mouser; Supplier Part Number 1: 859-LTL-30EFJ
footprint LED 5mm dual (LED for tht mounting with 5mm diameter)
pins: 1 Red Anode, 2 Common Cathode, 3 Green Anode
text: G; R

## MAX5035BUSA+
designator T?
Buck-converter 5V/1A SOIC-8; Supplier 1: Mouser; Supplier Part Number 1: 700-MAX5035BUSA
footprint SOIC-8 N H (Narrow (150mil) SOIC with 8 pins for hand soldering)
footprint SOIC-8 N R (Narrow (150mil) SOIC with 8 pins for reflow soldering)
pins: 1 BST, 2 VD, 3 SGND, 4 FB, 5 ON/~{OFF}, 6 GND, 7 VIN, 8 LX

## MCP601-I/P
designator K?
OPAMP Single 2.7-5.5V; Supplier 1: Mouser; Supplier Part Number 1: 579-MCP601IP
footprint DIP8-300 (DIP8 300mil width)
pins: 1 NC hidden, 2 VIN- (in), 3 VIN+ (in), 4 GND (power), 5 NC hidden, 6 VOUT (out), 7 VCC (power), 8 NC hidden

## MCP6004-I/P
designator K?
Quad OPAMP / Single Supply 1.8-6.3V / Rail to Rail; Supplier 1: Mouser; Supplier Part Number 1: 579-MCP6004-I/P
footprint DIP14-300 (DIP14 300mil width)
part A pins: 1 VOUTA (out), 2 VINA- (in), 3 VINA+ (in), 4 VCC (power), 11 GND (power)
part B pins: 5 VINB+ (in), 6 VINB- (in), 7 VOUTB (out)
part C pins: 8 VOUTC (out), 9 VINC- (in), 10 VINC+ (in)
part D pins: 12 VIND+ (in), 13 VIND- (in), 14 VOUTD (out)

## MIC5200-5.0YS-TR
designator T?
Linear voltage regulator 5V / 100mA SOT-223; Supplier 1: Mouser; Supplier Part Number 1: 998-MIC5200-5.0YSTR
footprint SOT223
pins: 1 IN, 2 GND, 3 OUT, 4 GND

## MIC5233-3.3YS-TR
designator T?
Linear voltage regulator 3.3V / 100mA SOT-223; Supplier 1: Mouser; Supplier Part Number 1: 998-MIC5233-3.3YSTR
footprint SOT223
pins: 1 IN, 2 GND, 3 OUT, 4 GND

## MOSFET N-Channel
designator K?  (value not drawn)
pins: 1 G, 2 S, 3 D

## MOSFET P-Channel
designator K?  (value not drawn)
pins: 1 G, 2 S, 3 D

## NTR4101PT1G
designator K?  (value not drawn)
MOSFET P-Channel in SOT23-3 package; Supplier 1: Mouser; Supplier Part Number 1: 863-NTR4101PT1G
footprint SOT23-3
pins: 1 G, 2 S, 3 D

## NTR4501NT1G
designator K?  (value not drawn)
MOSFET N-Channel in SOT23-3 package; Supplier 1: Mouser; Supplier Part Number 1: 863-NTR4501NT1G
footprint SOT23-3
pins: 1 G, 2 S, 3 D

## Oscillator
designator G?  value 12MHz
Crystal Oscillator; Published: 27.09.2019; LatestRevisionDate: 27.09.2019; Publisher: ICT Berufsbildungscenter AG
footprint Oscillator SMD
pins: 1 OSC1, 2 OSC2

## PIC16F1459-I/SO
designator K?
8 Bit Mikrocontroller, 20Pin, DIP, 14KB Flash, 1KB RAM, USB; Supplier 1: Mouser; Supplier Part Number 1: 579-PIC16F1459-I/SO
footprint SOIC-20 W H (Wide (300mil) SOIC with 20 pins for hand soldering)
footprint SOIC-18 W R (Wide (300mil) SOIC with 18 pins for reflow soldering)
pins: 1 VDD, 2 RA5, 3 RA4, 4 VPP/~{MCLR}/RA3, 5 RC5, 6 RC4, 7 RC3, 8 RC6, 9 RC7, 10 RB7, 11 RB6, 12 RB5, 13 RB4, 14 RC2, 15 RC1/ISSPCLK, 16 RC0/ICSPDAT, 17 V_USB_3V3, 18 RA1/D-/ICSPCLK, 19 RA0/D+/ICSPDAT, 20 VSS

## PIC16F15385-I/PT
designator K?
8Bit Microcontroller, 48Pin, TQFP; Published: 29-Jan-2009; LatestRevisionDate: 02-Dec-2009; LatestRevisionNote: Updated datasheet to version revF, Apr-2009.; DatasheetVersion: revF, Apr-2009; PackageVersion: revBB, Aug-2009; PackageReference: PDIP600-P40; Publisher: Altium Limited; PackageDescription: 40-Lead Plastic Dual In-Line (P) - 600 mil Body [PDIP]; ComponentLink1Description: Datasheet; ComponentLink1URL: https://www.mouser.ch/datasheet/2/268/40001923A-1116203.pdf; Supplier 1: Mouser; Supplier Part Number 1: 579-PIC16F15385-I/PT
footprint TQFP 48
pins: 1 RC7, 2 RD4, 3 RD5, 4 RD6, 5 RD7, 6 VSS, 7 VDD, 8 RB0, 9 RB1, 10 RB2, 11 RB3, 12 RF4, 13 RF5, 14 RF6, 15 RF7, 16 RB4, 17 RB5, 18 RB6/ICSPCLK, 19 RB7/ICSPDAT, 20 VPP/~{MCLR}/RE3, 21 RA0, 22 RA1, 23 RA2, 24 RA3, 25 RA4, 26 RA5, 27 RE0, 28 RE1, 29 RE2, 30 VDD, 31 VSS, 32 RA7, 33 RA6, 34 RC0, 35 RC1, 36 RF0, 37 RF1, 38 RF2, 39 RF3, 40 RC2, 41 RC3, 42 RD0, 43 RD1, 44 RD2, 45 RD3, 46 RC4, 47 RC5, 48 RC6

## PIC16F18325-I/P
designator K?
8 Bit Mikrocontroller, 14Pin, DIP, 14KB Flash, 1KB RAM, 256B EEPROM; Supplier 1: Mouser; Supplier Part Number 1: 579-PIC16F18325-I/P
footprint DIP14-300 (DIP14 300mil width)
pins: 1 VDD, 2 RA5, 3 RA4, 4 VPP/~{MCLR}/RA3, 5 RC5, 6 RC4, 7 RC3, 8 RC2, 9 RC1, 10 RC0, 11 RA2, 12 RA1/ICSPCLK, 13 RA0/ICSPDAT, 14 VSS

## PIC16F18345-I/P
designator K?
8 Bit Mikrocontroller, 20Pin, DIP, 14KB Flash, 1KB RAM, 256B EEPROM; Supplier 1: Mouser; Supplier Part Number 1: 579-PIC16F18345-I/P
footprint DIP20-300 (DIP20 300mil width)
pins: 1 VDD, 2 RA5, 3 RA4, 4 VPP/~{MCLR}/RA3, 5 RC5, 6 RC4, 7 RC3, 8 RC6, 9 RC7, 10 RB7, 11 RB6, 12 RB5, 13 RB4, 14 RC2, 15 RC1, 16 RC0, 17 RA2, 18 RA1/ICSPCLK, 19 RA0/ICSPDAT, 20 VSS

## Potentiometer
designator R?  value 1K  (hidden comment: Potentiometer)
LatestRevisionDate: 04.04.2019; Publisher: ICT Berufsbildungscenter AG
footprint Potentiometer THT
pins: 1, 2, 3

## RC4558P
designator K?
Dual OPAMP / Dual Supply 5-15V; Supplier 1: Mouser; Supplier Part Number 1: 595-RC4558P
footprint DIP8-300 (DIP8 300mil width)
part A pins: 1 OUT1 (out), 2 IN1- (in), 3 IN1+ (in), 4 V- (power), 8 V+ (power)
part B pins: 5 IN2+ (in), 6 IN2- (in), 7 OUT2 (out)

## Resistor
designator R?  value 1K  (hidden comment: Resistor)
LatestRevisionDate: 02.04.2019; Publisher: ICT Berufsbildungscenter AG
footprint RES 0402 R (0402 resistor for reflow soldering)
footprint RES 0603 H (0603 resistor for hand soldering)
footprint RES 0603 R (0603 resistor for reflow soldering)
footprint RES 0805 H (0805 resistor for hand soldering)
footprint RES 0805 R (0805 resistor for reflow soldering)
footprint RES 1206 H (1206 resistor for hand soldering)
footprint RES 1206 R (1206 resistor for reflow soldering)
footprint RES THT 7.5mm (resistor for tht mounting with a 7.5mm pitch)
footprint RES THT 10mm (resistor for tht mounting with a 10mm pitch)
pins: 1, 2

## Resistor Pack 4 bussed
designator R?, comment value 1K  (hidden comment: Resistor Pack)
Resistor pack with 4 resistors and a comman pin; LatestRevisionDate: 04.04.2019; Publisher: ICT Berufsbildungscenter AG
pins: 1, 2, 3, 4, 5

## Resistor Pack 4 isolated
designator R?, comment value 1K  (hidden comment: Resistor Pack)
Resistor pack with 4 individual resistors; LatestRevisionDate: 04.04.2019; Publisher: ICT Berufsbildungscenter AG
pins: 1, 2, 3, 4, 5, 6, 7, 8

## Resistor Pack 8 bussed
designator R?, comment value 1K  (hidden comment: Resistor Pack)
Resistor pack with 8 resistors and a comman pin; LatestRevisionDate: 04.04.2019; Publisher: ICT Berufsbildungscenter AG
pins: 1, 2, 3, 4, 5, 6, 7, 8, 9

## Resistor Pack 8 isolated
designator R?, comment value 1K  (hidden comment: Resistor Pack)
Resistor pack with 8 individual resistors; LatestRevisionDate: 04.04.2019; Publisher: ICT Berufsbildungscenter AG
pins: 1, 2, 3, 4, 5, 6, 7, 8, 9, 10, 11, 12, 13, 14, 15, 16

## SC4626ZSKTRT
designator T?
Buck-converter 3.3V/1A SOT23-5; Supplier 1: Mouser; Supplier Part Number 1: 947-SC4626ZSKTRT
footprint SOT23-5
pins: 1 VIN, 2 GND, 3 EN, 4 VOUT, 5 LX

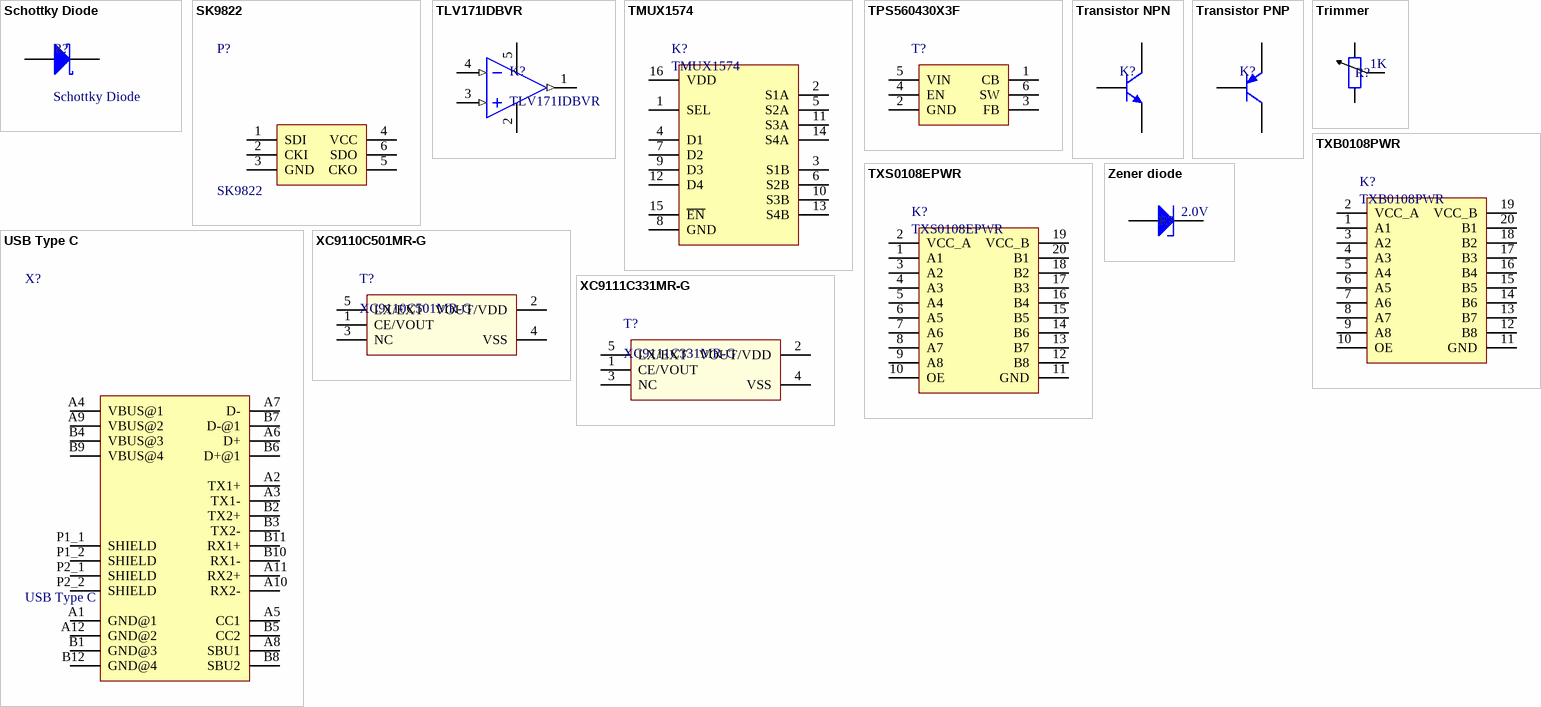
[diagram p2: symbols Schottky Diode to Zener diode]

## Schottky Diode
designator R?
LatestRevisionDate: 03.04.2019; Publisher: ICT Berufsbildungscenter AG
footprint Diode 5mm (Diode for tht mounting with a 5mm pitch)
footprint Diode 7.5mm (Diode for tht mounting with a 7.5mm pitch)
footprint Diode 10mm (Diode for tht mounting with a 10mm pitch)
footprint Diode 12.5mm (Diode for tht mounting with a 12.5mm pitch)
footprint Diode SOD123 H (Diode in SOD123 Case for hand soldering)
footprint Diode SOD123 R (Diode in SOD123 Case for reflow soldering)
footprint Diode DO-214AA SMB H (Diode in DO-214AA (same as SMB) package for hand soldering)
footprint Diode DO-214AB SMC H (Diode in DO-214AB (same as SMC) package for hand soldering)
footprint Diode DO-214AC SMA H (Diode in DO-214AC (same as SMA) package for hand soldering)
footprint Diode DO-214AA SMB R (Diode in DO-214AA (same as SMB) package for reflow soldering)
footprint Diode DO-214AB SMC R (Diode in DO-214AB (same as SMC) package for reflow soldering)
footprint Diode DO-214AC SMA R (Diode in DO-214AC (same as SMA) package for reflow soldering)
pins: A Anode, C Cathode

## SK9822
designator P?
SPI RGB LED; LatestRevisionDate: 02.05.2019; Publisher: ICT Berufsbildungscenter AG
footprint SK9822 (SPI RGB LED)
pins: 1 SDI (power), 2 CKI (power), 3 GND (power), 4 VCC (power), 5 CKO (power), 6 SDO (power)

## TLV171IDBVR
designator K?
OPAMP / Dual Supply 1.5-18V; Supplier 1: Mouser; Supplier Part Number 1: 595-TLV171IDBVR
footprint SOT23-5
pins: 1 OUT1 (out), 2 V- (power), 3 IN1+ (in), 4 IN1- (in), 5 V+ (power)

## TMUX1574
designator K?
Analog switch; Supplier 1: Mouser; Supplier Part Number 1: 595-TMUX1574PWR
footprint TSSOP-16 H (TSSOP-16 for hand soldering)
pins: 1 SEL, 2 S1A, 3 S1B, 4 D1, 5 S2A, 6 S2B, 7 D2, 8 GND, 9 D3, 10 S3B, 11 S3A, 12 D4, 13 S4B, 14 S4A, 15 ~{EN}, 16 VDD

## TPS560430X3F
designator T?  (value not drawn)
Buck Converter Vout = 3.3V; Supplier 1: Mouser; Supplier Part Number 1: 595-TPS560430X3FDBVR
footprint SOT23-6
pins: 1 CB, 2 GND, 3 FB, 4 EN, 5 VIN, 6 SW

## Transistor NPN
designator K?  (value not drawn)
pins: 1 B, 2 E, 3 C

## Transistor PNP
designator K?  (value not drawn)
pins: 1 B, 2 E, 3 C

## Trimmer
designator R?, comment value 1K  (hidden comment: Trimming Potentiometer)
LatestRevisionDate: 04.04.2019; Publisher: ICT Berufsbildungscenter AG
pins: 1, 2, 3

## TXB0108PWR
designator K?
Level Shifter; Supplier 1: Mouser; Supplier Part Number 1: 595-TXB0108PWR
footprint TSSOP-20 H (TSSOP-20 for hand soldering)
pins: 1 A1, 2 VCC_A, 3 A2, 4 A3, 5 A4, 6 A5, 7 A6, 8 A7, 9 A8, 10 OE, 11 GND, 12 B8, 13 B7, 14 B6, 15 B5, 16 B4, 17 B3, 18 B2, 19 VCC_B, 20 B1

## TXS0108EPWR
designator K?
Level Shifter with internal pullups; Supplier 1: Mouser; Supplier Part Number 1: 595-TXS0108EPWR
footprint TSSOP-20 H (TSSOP-20 for hand soldering)
pins: 1 A1, 2 VCC_A, 3 A2, 4 A3, 5 A4, 6 A5, 7 A6, 8 A7, 9 A8, 10 OE, 11 GND, 12 B8, 13 B7, 14 B6, 15 B5, 16 B4, 17 B3, 18 B2, 19 VCC_B, 20 B1

## USB Type C
designator X?
USB Type C Connector; Publisher: ICT Berufsbildungscenter AG; LatestRevisionDate: 03.05.2019
footprint USB Type C Vertical (Manufacturer Part Number: DX07S024WJ1R350)
footprint USB Type C Horizontal R (Manufacturer Part Number: 2129691-1)
footprint USB Type C Horizontal H (Manufacturer Part Number: Würth Elektronik 632723100011)
pins: A1 GND@1, A2 TX1+, A3 TX1-, A4 VBUS@1, A5 CC1, A6 D+, A7 D-, A8 SBU1, A9 VBUS@2, A10 RX2-, A11 RX2+, A12 GND@2, B1 GND@3, B2 TX2+, B3 TX2-, B4 VBUS@3, B5 CC2, B6 D+@1, B7 D-@1, B8 SBU2, B9 VBUS@4, B10 RX1-, B11 RX1+, B12 GND@4, P1_1 SHIELD, P1_2 SHIELD, P2_1 SHIELD, P2_2 SHIELD

## XC9110C501MR-G
designator T?
Boost-converter 5V/1A SOT23-5; Supplier 1: Mouser; Supplier Part Number 1: 865-XC9110C501MR-G
footprint SOT23-5
pins: 1 CE/VOUT, 2 VOUT/VDD, 3 NC, 4 VSS, 5 LX/EXT

## XC9111C331MR-G
designator T?
Boost-converter 3.3V/1A SOT23-5; Supplier 1: Mouser; Supplier Part Number 1: 865-XC9111C331MR-G
footprint SOT23-5
pins: 1 CE/VOUT, 2 VOUT/VDD, 3 NC, 4 VSS, 5 LX/EXT

## Zener diode
designator R?  value 2.0V  (hidden comment: Zener diode)
LatestRevisionDate: 24.01.2020; Publisher: ICT Berufsbildungscenter AG
footprint Diode 5mm (Diode for tht mounting with a 5mm pitch)
footprint Diode 7.5mm (Diode for tht mounting with a 7.5mm pitch)
footprint Diode 10mm (Diode for tht mounting with a 10mm pitch)
footprint Diode 12.5mm (Diode for tht mounting with a 12.5mm pitch)
footprint Diode SOD123 H (Diode in SOD123 Case for hand soldering)
footprint Diode SOD123 R (Diode in SOD123 Case for reflow soldering)
footprint Diode DO-214AA SMB H (Diode in DO-214AA (same as SMB) package for hand soldering)
footprint Diode DO-214AA SMB R (Diode in DO-214AA (same as SMB) package for reflow soldering)
footprint Diode DO-214AB SMC H (Diode in DO-214AB (same as SMC) package for hand soldering)
footprint Diode DO-214AB SMC R (Diode in DO-214AB (same as SMC) package for reflow soldering)
footprint Diode DO-214AC SMA H (Diode in DO-214AC (same as SMA) package for hand soldering)
footprint Diode DO-214AC SMA R (Diode in DO-214AC (same as SMA) package for reflow soldering)
pins: A Anode, C Cathode